# Altium schematic symbol library WRIS-RSKS.SchLib: 516 symbols (part 9 of 10)
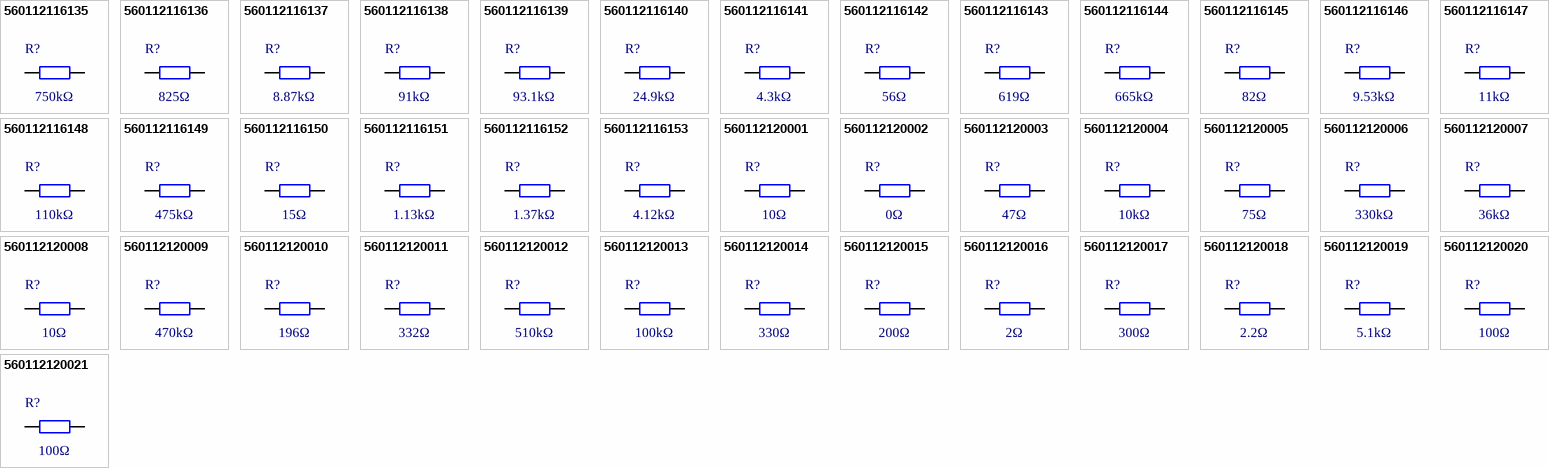
[diagram p20: symbols 560112116135 to 560112120021]

## 560112120016
designator R?, comment 2Ω
WRIS-RSKS Thick Film Resistor, size 0805, 2Ω, +/-5%, 250mW; Manufacturer Part Number: 560112120016; Manufacturer: Wurth Elektronik; Case/Size Code: 0805; Limiting Element Voltage: 150V; Temperature Coefficient of Resistance Min: -200ppm/°C; Temperature Coefficient of Resistance Max: 400ppm/°C; Category: Thick Film Resistors; Match Code: WRIS-RSKS; ComponentLink1Description: Website Link; ComponentLink1URL: https://www.we-online.com/redexpert/article/560112120016?ad; ComponentLink2Description: Datasheet Link; ComponentLink2URL: https://www.we-online.com/redexpert/spec/560112120016?ad; Mount: Surface Mount; Min Operating Temperature: -55°C; Max Operating Temperature: 155°C; Packaging: Tape and Reel; Length: 2mm; Width: 1.25mm; Height: 0.5mm; Rated Power: 250mW; Resistance: 2Ω; Resistance Tolerance: +/-5%
footprint WRIS-RSKS_0805_Reflow
footprint WRIS-RSKS_0805_Wave
pins: 1, 2

## 560112120017
designator R?, comment 300Ω
WRIS-RSKS Thick Film Resistor, size 0805, 300Ω, +/-1%, 250mW; Manufacturer Part Number: 560112120017; Manufacturer: Wurth Elektronik; Case/Size Code: 0805; Limiting Element Voltage: 150V; Temperature Coefficient of Resistance Min: -100ppm/°C; Temperature Coefficient of Resistance Max: 100ppm/°C; Category: Thick Film Resistors; Match Code: WRIS-RSKS; ComponentLink1Description: Website Link; ComponentLink1URL: https://www.we-online.com/redexpert/article/560112120017?ad; ComponentLink2Description: Datasheet Link; ComponentLink2URL: https://www.we-online.com/redexpert/spec/560112120017?ad; Mount: Surface Mount; Min Operating Temperature: -55°C; Max Operating Temperature: 155°C; Packaging: Tape and Reel; Length: 2mm; Width: 1.25mm; Height: 0.5mm; Rated Power: 250mW; Resistance: 300Ω; Resistance Tolerance: +/-1%
footprint WRIS-RSKS_0805_Reflow
footprint WRIS-RSKS_0805_Wave
pins: 1, 2

## 560112120018
designator R?, comment 2.2Ω
WRIS-RSKS Thick Film Resistor, size 0805, 2.2Ω, +/-1%, 250mW; Manufacturer Part Number: 560112120018; Manufacturer: Wurth Elektronik; Case/Size Code: 0805; Limiting Element Voltage: 150V; Temperature Coefficient of Resistance Min: -200ppm/°C; Temperature Coefficient of Resistance Max: 400ppm/°C; Category: Thick Film Resistors; Match Code: WRIS-RSKS; ComponentLink1Description: Website Link; ComponentLink1URL: https://www.we-online.com/redexpert/article/560112120018?ad; ComponentLink2Description: Datasheet Link; ComponentLink2URL: https://www.we-online.com/redexpert/spec/560112120018?ad; Mount: Surface Mount; Min Operating Temperature: -55°C; Max Operating Temperature: 155°C; Packaging: Tape and Reel; Length: 2mm; Width: 1.25mm; Height: 0.5mm; Rated Power: 250mW; Resistance: 2.2Ω; Resistance Tolerance: +/-1%
footprint WRIS-RSKS_0805_Reflow
footprint WRIS-RSKS_0805_Wave
pins: 1, 2

## 560112120019
designator R?, comment 5.1kΩ
WRIS-RSKS Thick Film Resistor, size 0805, 5.1kΩ, +/-5%, 250mW; Manufacturer Part Number: 560112120019; Manufacturer: Wurth Elektronik; Case/Size Code: 0805; Limiting Element Voltage: 150V; Temperature Coefficient of Resistance Min: -100ppm/°C; Temperature Coefficient of Resistance Max: 100ppm/°C; Category: Thick Film Resistors; Match Code: WRIS-RSKS; ComponentLink1Description: Website Link; ComponentLink1URL: https://www.we-online.com/redexpert/article/560112120019?ad; ComponentLink2Description: Datasheet Link; ComponentLink2URL: https://www.we-online.com/redexpert/spec/560112120019?ad; Mount: Surface Mount; Min Operating Temperature: -55°C; Max Operating Temperature: 155°C; Packaging: Tape and Reel; Length: 2mm; Width: 1.25mm; Height: 0.5mm; Rated Power: 250mW; Resistance: 5.1kΩ; Resistance Tolerance: +/-5%
footprint WRIS-RSKS_0805_Reflow
footprint WRIS-RSKS_0805_Wave
pins: 1, 2

## 560112120020
designator R?, comment 100Ω
WRIS-RSKS Thick Film Resistor, size 0805, 100Ω, +/-1%, 250mW; Manufacturer Part Number: 560112120020; Manufacturer: Wurth Elektronik; Case/Size Code: 0805; Limiting Element Voltage: 150V; Temperature Coefficient of Resistance Min: -100ppm/°C; Temperature Coefficient of Resistance Max: 100ppm/°C; Category: Thick Film Resistors; Match Code: WRIS-RSKS; ComponentLink1Description: Website Link; ComponentLink1URL: https://www.we-online.com/redexpert/article/560112120020?ad; ComponentLink2Description: Datasheet Link; ComponentLink2URL: https://www.we-online.com/redexpert/spec/560112120020?ad; Mount: Surface Mount; Min Operating Temperature: -55°C; Max Operating Temperature: 155°C; Packaging: Tape and Reel; Length: 2mm; Width: 1.25mm; Height: 0.5mm; Rated Power: 250mW; Resistance: 100Ω; Resistance Tolerance: +/-1%
footprint WRIS-RSKS_0805_Reflow
footprint WRIS-RSKS_0805_Wave
pins: 1, 2

## 560112120021
designator R?, comment 100Ω
WRIS-RSKS Thick Film Resistor, size 0805, 100Ω, +/-5%, 250mW; Manufacturer Part Number: 560112120021; Manufacturer: Wurth Elektronik; Case/Size Code: 0805; Limiting Element Voltage: 150V; Temperature Coefficient of Resistance Min: -100ppm/°C; Temperature Coefficient of Resistance Max: 100ppm/°C; Category: Thick Film Resistors; Match Code: WRIS-RSKS; ComponentLink1Description: Website Link; ComponentLink1URL: https://www.we-online.com/redexpert/article/560112120021?ad; ComponentLink2Description: Datasheet Link; ComponentLink2URL: https://www.we-online.com/redexpert/spec/560112120021?ad; Mount: Surface Mount; Min Operating Temperature: -55°C; Max Operating Temperature: 155°C; Packaging: Tape and Reel; Length: 2mm; Width: 1.25mm; Height: 0.5mm; Rated Power: 250mW; Resistance: 100Ω; Resistance Tolerance: +/-5%
footprint WRIS-RSKS_0805_Reflow
footprint WRIS-RSKS_0805_Wave
pins: 1, 2

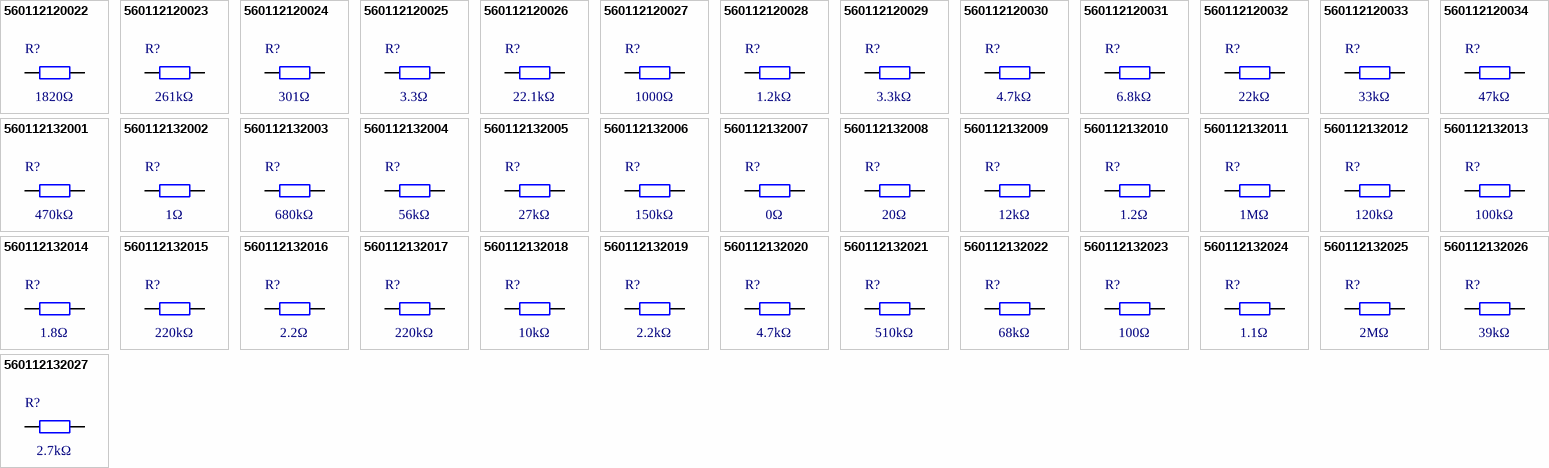
[diagram p11: symbols 560112120022 to 560112132027]

## 560112120022
designator R?, comment 1820Ω
WRIS-RSKS Thick Film Resistor, size 0805, 1820Ω, +/-1%, 250mW; Manufacturer Part Number: 560112120022; Manufacturer: Wurth Elektronik; Case/Size Code: 0805; Limiting Element Voltage: 150V; Temperature Coefficient of Resistance Min: -100ppm/°C; Temperature Coefficient of Resistance Max: 100ppm/°C; Category: Thick Film Resistors; Match Code: WRIS-RSKS; ComponentLink1Description: Website Link; ComponentLink1URL: https://www.we-online.com/redexpert/article/560112120022?ad; ComponentLink2Description: Datasheet Link; ComponentLink2URL: https://www.we-online.com/redexpert/spec/560112120022?ad; Mount: Surface Mount; Min Operating Temperature: -55°C; Max Operating Temperature: 155°C; Packaging: Tape and Reel; Length: 2mm; Width: 1.25mm; Height: 0.5mm; Rated Power: 250mW; Resistance: 1820Ω; Resistance Tolerance: +/-1%
footprint WRIS-RSKS_0805_Reflow
footprint WRIS-RSKS_0805_Wave
pins: 1, 2

## 560112120023
designator R?, comment 261kΩ
WRIS-RSKS Thick Film Resistor, size 0805, 261kΩ, +/-1%, 250mW; Manufacturer Part Number: 560112120023; Manufacturer: Wurth Elektronik; Case/Size Code: 0805; Limiting Element Voltage: 150V; Temperature Coefficient of Resistance Min: -100ppm/°C; Temperature Coefficient of Resistance Max: 100ppm/°C; Category: Thick Film Resistors; Match Code: WRIS-RSKS; ComponentLink1Description: Website Link; ComponentLink1URL: https://www.we-online.com/redexpert/article/560112120023?ad; ComponentLink2Description: Datasheet Link; ComponentLink2URL: https://www.we-online.com/redexpert/spec/560112120023?ad; Mount: Surface Mount; Min Operating Temperature: -55°C; Max Operating Temperature: 155°C; Packaging: Tape and Reel; Length: 2mm; Width: 1.25mm; Height: 0.5mm; Rated Power: 250mW; Resistance: 261kΩ; Resistance Tolerance: +/-1%
footprint WRIS-RSKS_0805_Reflow
footprint WRIS-RSKS_0805_Wave
pins: 1, 2

## 560112120024
designator R?, comment 301Ω
WRIS-RSKS Thick Film Resistor, size 0805, 301Ω, +/-1%, 250mW; Manufacturer Part Number: 560112120024; Manufacturer: Wurth Elektronik; Case/Size Code: 0805; Limiting Element Voltage: 150V; Temperature Coefficient of Resistance Min: -100ppm/°C; Temperature Coefficient of Resistance Max: 100ppm/°C; Category: Thick Film Resistors; Match Code: WRIS-RSKS; ComponentLink1Description: Website Link; ComponentLink1URL: https://www.we-online.com/redexpert/article/560112120024?ad; ComponentLink2Description: Datasheet Link; ComponentLink2URL: https://www.we-online.com/redexpert/spec/560112120024?ad; Mount: Surface Mount; Min Operating Temperature: -55°C; Max Operating Temperature: 155°C; Packaging: Tape and Reel; Length: 2mm; Width: 1.25mm; Height: 0.5mm; Rated Power: 250mW; Resistance: 301Ω; Resistance Tolerance: +/-1%
footprint WRIS-RSKS_0805_Reflow
footprint WRIS-RSKS_0805_Wave
pins: 1, 2

## 560112120025
designator R?, comment 3.3Ω
WRIS-RSKS Thick Film Resistor, size 0805, 3.3Ω, +/-5%, 250mW; Manufacturer Part Number: 560112120025; Manufacturer: Wurth Elektronik; Case/Size Code: 0805; Limiting Element Voltage: 150V; Temperature Coefficient of Resistance Min: -200ppm/°C; Temperature Coefficient of Resistance Max: 400ppm/°C; Category: Thick Film Resistors; Match Code: WRIS-RSKS; ComponentLink1Description: Website Link; ComponentLink1URL: https://www.we-online.com/redexpert/article/560112120025?ad; ComponentLink2Description: Datasheet Link; ComponentLink2URL: https://www.we-online.com/redexpert/spec/560112120025?ad; Mount: Surface Mount; Min Operating Temperature: -55°C; Max Operating Temperature: 155°C; Packaging: Tape and Reel; Length: 2mm; Width: 1.25mm; Height: 0.5mm; Rated Power: 250mW; Resistance: 3.3Ω; Resistance Tolerance: +/-5%
footprint WRIS-RSKS_0805_Reflow
footprint WRIS-RSKS_0805_Wave
pins: 1, 2

## 560112120026
designator R?, comment 22.1kΩ
WRIS-RSKS Thick Film Resistor, size 0805, 22.1kΩ, +/-1%, 250mW; Manufacturer Part Number: 560112120026; Manufacturer: Wurth Elektronik; Case/Size Code: 0805; Limiting Element Voltage: 150V; Temperature Coefficient of Resistance Min: -100ppm/°C; Temperature Coefficient of Resistance Max: 100ppm/°C; Category: Thick Film Resistors; Match Code: WRIS-RSKS; ComponentLink1Description: Website Link; ComponentLink1URL: https://www.we-online.com/redexpert/article/560112120026?ad; ComponentLink2Description: Datasheet Link; ComponentLink2URL: https://www.we-online.com/redexpert/spec/560112120026?ad; Mount: Surface Mount; Min Operating Temperature: -55°C; Max Operating Temperature: 155°C; Packaging: Tape and Reel; Length: 2mm; Width: 1.25mm; Height: 0.5mm; Rated Power: 250mW; Resistance: 22.1kΩ; Resistance Tolerance: +/-1%
footprint WRIS-RSKS_0805_Reflow
footprint WRIS-RSKS_0805_Wave
pins: 1, 2

## 560112120027
designator R?, comment 1000Ω
WRIS-RSKS Thick Film Resistor, size 0805, 1000Ω, +/-1%, 250mW; Manufacturer Part Number: 560112120027; Manufacturer: Wurth Elektronik; Case/Size Code: 0805; Limiting Element Voltage: 150V; Temperature Coefficient of Resistance Min: -100ppm/°C; Temperature Coefficient of Resistance Max: 100ppm/°C; Category: Thick Film Resistors; Match Code: WRIS-RSKS; ComponentLink1Description: Website Link; ComponentLink1URL: https://www.we-online.com/redexpert/article/560112120027?ad; ComponentLink2Description: Datasheet Link; ComponentLink2URL: https://www.we-online.com/redexpert/spec/560112120027?ad; Mount: Surface Mount; Min Operating Temperature: -55°C; Max Operating Temperature: 155°C; Packaging: Tape and Reel; Length: 2mm; Width: 1.25mm; Height: 0.5mm; Rated Power: 250mW; Resistance: 1000Ω; Resistance Tolerance: +/-1%
footprint WRIS-RSKS_0805_Reflow
footprint WRIS-RSKS_0805_Wave
pins: 1, 2

## 560112120028
designator R?, comment 1.2kΩ
WRIS-RSKS Thick Film Resistor, size 0805, 1.2kΩ, +/-1%, 250mW; Manufacturer Part Number: 560112120028; Manufacturer: Wurth Elektronik; Case/Size Code: 0805; Limiting Element Voltage: 150V; Temperature Coefficient of Resistance Min: -100ppm/°C; Temperature Coefficient of Resistance Max: 100ppm/°C; Category: Thick Film Resistors; Match Code: WRIS-RSKS; ComponentLink1Description: Website Link; ComponentLink1URL: https://www.we-online.com/redexpert/article/560112120028?ad; ComponentLink2Description: Datasheet Link; ComponentLink2URL: https://www.we-online.com/redexpert/spec/560112120028?ad; Mount: Surface Mount; Min Operating Temperature: -55°C; Max Operating Temperature: 155°C; Packaging: Tape and Reel; Length: 2mm; Width: 1.25mm; Height: 0.5mm; Rated Power: 250mW; Resistance: 1.2kΩ; Resistance Tolerance: +/-1%
footprint WRIS-RSKS_0805_Reflow
footprint WRIS-RSKS_0805_Wave
pins: 1, 2

## 560112120029
designator R?, comment 3.3kΩ
WRIS-RSKS Thick Film Resistor, size 0805, 3.3kΩ, +/-1%, 250mW; Manufacturer Part Number: 560112120029; Manufacturer: Wurth Elektronik; Case/Size Code: 0805; Limiting Element Voltage: 150V; Temperature Coefficient of Resistance Min: -100ppm/°C; Temperature Coefficient of Resistance Max: 100ppm/°C; Category: Thick Film Resistors; Match Code: WRIS-RSKS; ComponentLink1Description: Website Link; ComponentLink1URL: https://www.we-online.com/redexpert/article/560112120029?ad; ComponentLink2Description: Datasheet Link; ComponentLink2URL: https://www.we-online.com/redexpert/spec/560112120029?ad; Mount: Surface Mount; Min Operating Temperature: -55°C; Max Operating Temperature: 155°C; Packaging: Tape and Reel; Length: 2mm; Width: 1.25mm; Height: 0.5mm; Rated Power: 250mW; Resistance: 3.3kΩ; Resistance Tolerance: +/-1%
footprint WRIS-RSKS_0805_Reflow
footprint WRIS-RSKS_0805_Wave
pins: 1, 2

## 560112120030
designator R?, comment 4.7kΩ
WRIS-RSKS Thick Film Resistor, size 0805, 4.7kΩ, +/-1%, 250mW; Manufacturer Part Number: 560112120030; Manufacturer: Wurth Elektronik; Case/Size Code: 0805; Limiting Element Voltage: 150V; Temperature Coefficient of Resistance Min: -100ppm/°C; Temperature Coefficient of Resistance Max: 100ppm/°C; Category: Thick Film Resistors; Match Code: WRIS-RSKS; ComponentLink1Description: Website Link; ComponentLink1URL: https://www.we-online.com/redexpert/article/560112120030?ad; ComponentLink2Description: Datasheet Link; ComponentLink2URL: https://www.we-online.com/redexpert/spec/560112120030?ad; Mount: Surface Mount; Min Operating Temperature: -55°C; Max Operating Temperature: 155°C; Packaging: Tape and Reel; Length: 2mm; Width: 1.25mm; Height: 0.5mm; Rated Power: 250mW; Resistance: 4.7kΩ; Resistance Tolerance: +/-1%
footprint WRIS-RSKS_0805_Reflow
footprint WRIS-RSKS_0805_Wave
pins: 1, 2

## 560112120031
designator R?, comment 6.8kΩ
WRIS-RSKS Thick Film Resistor, size 0805, 6.8kΩ, +/-1%, 250mW; Manufacturer Part Number: 560112120031; Manufacturer: Wurth Elektronik; Case/Size Code: 0805; Limiting Element Voltage: 150V; Temperature Coefficient of Resistance Min: -100ppm/°C; Temperature Coefficient of Resistance Max: 100ppm/°C; Category: Thick Film Resistors; Match Code: WRIS-RSKS; ComponentLink1Description: Website Link; ComponentLink1URL: https://www.we-online.com/redexpert/article/560112120031?ad; ComponentLink2Description: Datasheet Link; ComponentLink2URL: https://www.we-online.com/redexpert/spec/560112120031?ad; Mount: Surface Mount; Min Operating Temperature: -55°C; Max Operating Temperature: 155°C; Packaging: Tape and Reel; Length: 2mm; Width: 1.25mm; Height: 0.5mm; Rated Power: 250mW; Resistance: 6.8kΩ; Resistance Tolerance: +/-1%
footprint WRIS-RSKS_0805_Reflow
footprint WRIS-RSKS_0805_Wave
pins: 1, 2

## 560112120032
designator R?, comment 22kΩ
WRIS-RSKS Thick Film Resistor, size 0805, 22kΩ, +/-1%, 250mW; Manufacturer Part Number: 560112120032; Manufacturer: Wurth Elektronik; Case/Size Code: 0805; Limiting Element Voltage: 150V; Temperature Coefficient of Resistance Min: -100ppm/°C; Temperature Coefficient of Resistance Max: 100ppm/°C; Category: Thick Film Resistors; Match Code: WRIS-RSKS; ComponentLink1Description: Website Link; ComponentLink1URL: https://www.we-online.com/redexpert/article/560112120032?ad; ComponentLink2Description: Datasheet Link; ComponentLink2URL: https://www.we-online.com/redexpert/spec/560112120032?ad; Mount: Surface Mount; Min Operating Temperature: -55°C; Max Operating Temperature: 155°C; Packaging: Tape and Reel; Length: 2mm; Width: 1.25mm; Height: 0.5mm; Rated Power: 250mW; Resistance: 22kΩ; Resistance Tolerance: +/-1%
footprint WRIS-RSKS_0805_Reflow
footprint WRIS-RSKS_0805_Wave
pins: 1, 2

## 560112120033
designator R?, comment 33kΩ
WRIS-RSKS Thick Film Resistor, size 0805, 33kΩ, +/-1%, 250mW; Manufacturer Part Number: 560112120033; Manufacturer: Wurth Elektronik; Case/Size Code: 0805; Limiting Element Voltage: 150V; Temperature Coefficient of Resistance Min: -100ppm/°C; Temperature Coefficient of Resistance Max: 100ppm/°C; Category: Thick Film Resistors; Match Code: WRIS-RSKS; ComponentLink1Description: Website Link; ComponentLink1URL: https://www.we-online.com/redexpert/article/560112120033?ad; ComponentLink2Description: Datasheet Link; ComponentLink2URL: https://www.we-online.com/redexpert/spec/560112120033?ad; Mount: Surface Mount; Min Operating Temperature: -55°C; Max Operating Temperature: 155°C; Packaging: Tape and Reel; Length: 2mm; Width: 1.25mm; Height: 0.5mm; Rated Power: 250mW; Resistance: 33kΩ; Resistance Tolerance: +/-1%
footprint WRIS-RSKS_0805_Reflow
footprint WRIS-RSKS_0805_Wave
pins: 1, 2

## 560112120034
designator R?, comment 47kΩ
WRIS-RSKS Thick Film Resistor, size 0805, 47kΩ, +/-1%, 250mW; Manufacturer Part Number: 560112120034; Manufacturer: Wurth Elektronik; Case/Size Code: 0805; Limiting Element Voltage: 150V; Temperature Coefficient of Resistance Min: -100ppm/°C; Temperature Coefficient of Resistance Max: 100ppm/°C; Category: Thick Film Resistors; Match Code: WRIS-RSKS; ComponentLink1Description: Website Link; ComponentLink1URL: https://www.we-online.com/redexpert/article/560112120034?ad; ComponentLink2Description: Datasheet Link; ComponentLink2URL: https://www.we-online.com/redexpert/spec/560112120034?ad; Mount: Surface Mount; Min Operating Temperature: -55°C; Max Operating Temperature: 155°C; Packaging: Tape and Reel; Length: 2mm; Width: 1.25mm; Height: 0.5mm; Rated Power: 250mW; Resistance: 47kΩ; Resistance Tolerance: +/-1%
footprint WRIS-RSKS_0805_Reflow
footprint WRIS-RSKS_0805_Wave
pins: 1, 2

## 560112132001
designator R?, comment 470kΩ
WRIS-RSKS Thick Film Resistor, size 1206, 470kΩ, +/-1%, 250mW; Manufacturer Part Number: 560112132001; Manufacturer: Wurth Elektronik; Case/Size Code: 1206; Limiting Element Voltage: 200V; Temperature Coefficient of Resistance Min: -100ppm/°C; Temperature Coefficient of Resistance Max: 100ppm/°C; Category: Thick Film Resistors; Match Code: WRIS-RSKS; ComponentLink1Description: Website Link; ComponentLink1URL: https://www.we-online.com/redexpert/article/560112132001?ad; ComponentLink2Description: Datasheet Link; ComponentLink2URL: https://www.we-online.com/redexpert/spec/560112132001?ad; Mount: Surface Mount; Min Operating Temperature: -55°C; Max Operating Temperature: 155°C; Packaging: Tape and Reel; Length: 3.1mm; Width: 1.6mm; Height: 0.6mm; Rated Power: 250mW; Resistance: 470kΩ; Resistance Tolerance: +/-1%
footprint WRIS-RSKS_1206_Reflow
footprint WRIS-RSKS_1206_Wave
pins: 1, 2

## 560112132002
designator R?, comment 1Ω
WRIS-RSKS Thick Film Resistor, size 1206, 1Ω, +/-1%, 250mW; Manufacturer Part Number: 560112132002; Manufacturer: Wurth Elektronik; Case/Size Code: 1206; Limiting Element Voltage: 200V; Temperature Coefficient of Resistance Min: -200ppm/°C; Temperature Coefficient of Resistance Max: 400ppm/°C; Category: Thick Film Resistors; Match Code: WRIS-RSKS; ComponentLink1Description: Website Link; ComponentLink1URL: https://www.we-online.com/redexpert/article/560112132002?ad; ComponentLink2Description: Datasheet Link; ComponentLink2URL: https://www.we-online.com/redexpert/spec/560112132002?ad; Mount: Surface Mount; Min Operating Temperature: -55°C; Max Operating Temperature: 155°C; Packaging: Tape and Reel; Length: 3.1mm; Width: 1.6mm; Height: 0.6mm; Rated Power: 250mW; Resistance: 1Ω; Resistance Tolerance: +/-1%
footprint WRIS-RSKS_1206_Reflow
footprint WRIS-RSKS_1206_Wave
pins: 1, 2

## 560112132003
designator R?, comment 680kΩ
WRIS-RSKS Thick Film Resistor, size 1206, 680kΩ, +/-1%, 250mW; Manufacturer Part Number: 560112132003; Manufacturer: Wurth Elektronik; Case/Size Code: 1206; Limiting Element Voltage: 200V; Temperature Coefficient of Resistance Min: -100ppm/°C; Temperature Coefficient of Resistance Max: 100ppm/°C; Category: Thick Film Resistors; Match Code: WRIS-RSKS; ComponentLink1Description: Website Link; ComponentLink1URL: https://www.we-online.com/redexpert/article/560112132003?ad; ComponentLink2Description: Datasheet Link; ComponentLink2URL: https://www.we-online.com/redexpert/spec/560112132003?ad; Mount: Surface Mount; Min Operating Temperature: -55°C; Max Operating Temperature: 155°C; Packaging: Tape and Reel; Length: 3.1mm; Width: 1.6mm; Height: 0.6mm; Rated Power: 250mW; Resistance: 680kΩ; Resistance Tolerance: +/-1%
footprint WRIS-RSKS_1206_Reflow
footprint WRIS-RSKS_1206_Wave
pins: 1, 2

## 560112132004
designator R?, comment 56kΩ
WRIS-RSKS Thick Film Resistor, size 1206, 56kΩ, +/-1%, 250mW; Manufacturer Part Number: 560112132004; Manufacturer: Wurth Elektronik; Case/Size Code: 1206; Limiting Element Voltage: 200V; Temperature Coefficient of Resistance Min: -100ppm/°C; Temperature Coefficient of Resistance Max: 100ppm/°C; Category: Thick Film Resistors; Match Code: WRIS-RSKS; ComponentLink1Description: Website Link; ComponentLink1URL: https://www.we-online.com/redexpert/article/560112132004?ad; ComponentLink2Description: Datasheet Link; ComponentLink2URL: https://www.we-online.com/redexpert/spec/560112132004?ad; Mount: Surface Mount; Min Operating Temperature: -55°C; Max Operating Temperature: 155°C; Packaging: Tape and Reel; Length: 3.1mm; Width: 1.6mm; Height: 0.6mm; Rated Power: 250mW; Resistance: 56kΩ; Resistance Tolerance: +/-1%
footprint WRIS-RSKS_1206_Reflow
footprint WRIS-RSKS_1206_Wave
pins: 1, 2

## 560112132005
designator R?, comment 27kΩ
WRIS-RSKS Thick Film Resistor, size 1206, 27kΩ, +/-1%, 250mW; Manufacturer Part Number: 560112132005; Manufacturer: Wurth Elektronik; Case/Size Code: 1206; Limiting Element Voltage: 200V; Temperature Coefficient of Resistance Min: -100ppm/°C; Temperature Coefficient of Resistance Max: 100ppm/°C; Category: Thick Film Resistors; Match Code: WRIS-RSKS; ComponentLink1Description: Website Link; ComponentLink1URL: https://www.we-online.com/redexpert/article/560112132005?ad; ComponentLink2Description: Datasheet Link; ComponentLink2URL: https://www.we-online.com/redexpert/spec/560112132005?ad; Mount: Surface Mount; Min Operating Temperature: -55°C; Max Operating Temperature: 155°C; Packaging: Tape and Reel; Length: 3.1mm; Width: 1.6mm; Height: 0.6mm; Rated Power: 250mW; Resistance: 27kΩ; Resistance Tolerance: +/-1%
footprint WRIS-RSKS_1206_Reflow
footprint WRIS-RSKS_1206_Wave
pins: 1, 2

## 560112132006
designator R?, comment 150kΩ
WRIS-RSKS Thick Film Resistor, size 1206, 150kΩ, +/-1%, 250mW; Manufacturer Part Number: 560112132006; Manufacturer: Wurth Elektronik; Case/Size Code: 1206; Limiting Element Voltage: 200V; Temperature Coefficient of Resistance Min: -100ppm/°C; Temperature Coefficient of Resistance Max: 100ppm/°C; Category: Thick Film Resistors; Match Code: WRIS-RSKS; ComponentLink1Description: Website Link; ComponentLink1URL: https://www.we-online.com/redexpert/article/560112132006?ad; ComponentLink2Description: Datasheet Link; ComponentLink2URL: https://www.we-online.com/redexpert/spec/560112132006?ad; Mount: Surface Mount; Min Operating Temperature: -55°C; Max Operating Temperature: 155°C; Packaging: Tape and Reel; Length: 3.1mm; Width: 1.6mm; Height: 0.6mm; Rated Power: 250mW; Resistance: 150kΩ; Resistance Tolerance: +/-1%
footprint WRIS-RSKS_1206_Reflow
footprint WRIS-RSKS_1206_Wave
pins: 1, 2

## 560112132007
designator R?, comment 0Ω
WRIS-RSKS Thick Film Resistor, size 1206, 0Ω, +0.05Ω/-0Ω, 250mW; Manufacturer Part Number: 560112132007; Manufacturer: Wurth Elektronik; Case/Size Code: 1206; Limiting Element Voltage: 0V; Temperature Coefficient of Resistance Min: 0ppm/°C; Category: Thick Film Resistors; Match Code: WRIS-RSKS; ComponentLink1Description: Website Link; ComponentLink1URL: https://www.we-online.com/redexpert/article/560112132007?ad; ComponentLink2Description: Datasheet Link; ComponentLink2URL: https://www.we-online.com/redexpert/spec/560112132007?ad; Mount: Surface Mount; Min Operating Temperature: -55°C; Max Operating Temperature: 155°C; Packaging: Tape and Reel; Length: 3.1mm; Width: 1.6mm; Height: 0.6mm; Rated Power: 250mW; Resistance: 0Ω; Resistance Tolerance: +0.05Ω/-0Ω; Temperature Coefficient of Resistance Max: 0ppm/°C
footprint WRIS-RSKS_1206_Reflow
footprint WRIS-RSKS_1206_Wave
pins: 1, 2

## 560112132008
designator R?, comment 20Ω
WRIS-RSKS Thick Film Resistor, size 1206, 20Ω, +/-1%, 250mW; Manufacturer Part Number: 560112132008; Manufacturer: Wurth Elektronik; Case/Size Code: 1206; Limiting Element Voltage: 200V; Temperature Coefficient of Resistance Min: -100ppm/°C; Temperature Coefficient of Resistance Max: 100ppm/°C; Category: Thick Film Resistors; Match Code: WRIS-RSKS; ComponentLink1Description: Website Link; ComponentLink1URL: https://www.we-online.com/redexpert/article/560112132008?ad; ComponentLink2Description: Datasheet Link; ComponentLink2URL: https://www.we-online.com/redexpert/spec/560112132008?ad; Mount: Surface Mount; Min Operating Temperature: -55°C; Max Operating Temperature: 155°C; Packaging: Tape and Reel; Length: 3.1mm; Width: 1.6mm; Height: 0.6mm; Rated Power: 250mW; Resistance: 20Ω; Resistance Tolerance: +/-1%
footprint WRIS-RSKS_1206_Reflow
footprint WRIS-RSKS_1206_Wave
pins: 1, 2

## 560112132009
designator R?, comment 12kΩ
WRIS-RSKS Thick Film Resistor, size 1206, 12kΩ, +/-1%, 250mW; Manufacturer Part Number: 560112132009; Manufacturer: Wurth Elektronik; Case/Size Code: 1206; Limiting Element Voltage: 200V; Temperature Coefficient of Resistance Min: -100ppm/°C; Temperature Coefficient of Resistance Max: 100ppm/°C; Category: Thick Film Resistors; Match Code: WRIS-RSKS; ComponentLink1Description: Website Link; ComponentLink1URL: https://www.we-online.com/redexpert/article/560112132009?ad; ComponentLink2Description: Datasheet Link; ComponentLink2URL: https://www.we-online.com/redexpert/spec/560112132009?ad; Mount: Surface Mount; Min Operating Temperature: -55°C; Max Operating Temperature: 155°C; Packaging: Tape and Reel; Length: 3.1mm; Width: 1.6mm; Height: 0.6mm; Rated Power: 250mW; Resistance: 12kΩ; Resistance Tolerance: +/-1%
footprint WRIS-RSKS_1206_Reflow
footprint WRIS-RSKS_1206_Wave
pins: 1, 2

## 560112132010
designator R?, comment 1.2Ω
WRIS-RSKS Thick Film Resistor, size 1206, 1.2Ω, +/-1%, 250mW; Manufacturer Part Number: 560112132010; Manufacturer: Wurth Elektronik; Case/Size Code: 1206; Limiting Element Voltage: 200V; Temperature Coefficient of Resistance Min: -200ppm/°C; Temperature Coefficient of Resistance Max: 400ppm/°C; Category: Thick Film Resistors; Match Code: WRIS-RSKS; ComponentLink1Description: Website Link; ComponentLink1URL: https://www.we-online.com/redexpert/article/560112132010?ad; ComponentLink2Description: Datasheet Link; ComponentLink2URL: https://www.we-online.com/redexpert/spec/560112132010?ad; Mount: Surface Mount; Min Operating Temperature: -55°C; Max Operating Temperature: 155°C; Packaging: Tape and Reel; Length: 3.1mm; Width: 1.6mm; Height: 0.6mm; Rated Power: 250mW; Resistance: 1.2Ω; Resistance Tolerance: +/-1%
footprint WRIS-RSKS_1206_Reflow
footprint WRIS-RSKS_1206_Wave
pins: 1, 2

## 560112132011
designator R?, comment 1MΩ
WRIS-RSKS Thick Film Resistor, size 1206, 1MΩ, +/-1%, 250mW; Manufacturer Part Number: 560112132011; Manufacturer: Wurth Elektronik; Case/Size Code: 1206; Limiting Element Voltage: 200V; Temperature Coefficient of Resistance Min: -100ppm/°C; Temperature Coefficient of Resistance Max: 100ppm/°C; Category: Thick Film Resistors; Match Code: WRIS-RSKS; ComponentLink1Description: Website Link; ComponentLink1URL: https://www.we-online.com/redexpert/article/560112132011?ad; ComponentLink2Description: Datasheet Link; ComponentLink2URL: https://www.we-online.com/redexpert/spec/560112132011?ad; Mount: Surface Mount; Min Operating Temperature: -55°C; Max Operating Temperature: 155°C; Packaging: Tape and Reel; Length: 3.1mm; Width: 1.6mm; Height: 0.6mm; Rated Power: 250mW; Resistance: 1MΩ; Resistance Tolerance: +/-1%
footprint WRIS-RSKS_1206_Reflow
footprint WRIS-RSKS_1206_Wave
pins: 1, 2

## 560112132012
designator R?, comment 120kΩ
WRIS-RSKS Thick Film Resistor, size 1206, 120kΩ, +/-1%, 250mW; Manufacturer Part Number: 560112132012; Manufacturer: Wurth Elektronik; Case/Size Code: 1206; Limiting Element Voltage: 200V; Temperature Coefficient of Resistance Min: -100ppm/°C; Temperature Coefficient of Resistance Max: 100ppm/°C; Category: Thick Film Resistors; Match Code: WRIS-RSKS; ComponentLink1Description: Website Link; ComponentLink1URL: https://www.we-online.com/redexpert/article/560112132012?ad; ComponentLink2Description: Datasheet Link; ComponentLink2URL: https://www.we-online.com/redexpert/spec/560112132012?ad; Mount: Surface Mount; Min Operating Temperature: -55°C; Max Operating Temperature: 155°C; Packaging: Tape and Reel; Length: 3.1mm; Width: 1.6mm; Height: 0.6mm; Rated Power: 250mW; Resistance: 120kΩ; Resistance Tolerance: +/-1%
footprint WRIS-RSKS_1206_Reflow
footprint WRIS-RSKS_1206_Wave
pins: 1, 2

## 560112132013
designator R?, comment 100kΩ
WRIS-RSKS Thick Film Resistor, size 1206, 100kΩ, +/-5%, 250mW; Manufacturer Part Number: 560112132013; Manufacturer: Wurth Elektronik; Case/Size Code: 1206; Limiting Element Voltage: 200V; Temperature Coefficient of Resistance Min: -100ppm/°C; Temperature Coefficient of Resistance Max: 100ppm/°C; Category: Thick Film Resistors; Match Code: WRIS-RSKS; ComponentLink1Description: Website Link; ComponentLink1URL: https://www.we-online.com/redexpert/article/560112132013?ad; ComponentLink2Description: Datasheet Link; ComponentLink2URL: https://www.we-online.com/redexpert/spec/560112132013?ad; Mount: Surface Mount; Min Operating Temperature: -55°C; Max Operating Temperature: 155°C; Packaging: Tape and Reel; Length: 3.1mm; Width: 1.6mm; Height: 0.6mm; Rated Power: 250mW; Resistance: 100kΩ; Resistance Tolerance: +/-5%
footprint WRIS-RSKS_1206_Reflow
footprint WRIS-RSKS_1206_Wave
pins: 1, 2

## 560112132014
designator R?, comment 1.8Ω
WRIS-RSKS Thick Film Resistor, size 1206, 1.8Ω, +/-1%, 250mW; Manufacturer Part Number: 560112132014; Manufacturer: Wurth Elektronik; Case/Size Code: 1206; Limiting Element Voltage: 200V; Temperature Coefficient of Resistance Min: -200ppm/°C; Temperature Coefficient of Resistance Max: 400ppm/°C; Category: Thick Film Resistors; Match Code: WRIS-RSKS; ComponentLink1Description: Website Link; ComponentLink1URL: https://www.we-online.com/redexpert/article/560112132014?ad; ComponentLink2Description: Datasheet Link; ComponentLink2URL: https://www.we-online.com/redexpert/spec/560112132014?ad; Mount: Surface Mount; Min Operating Temperature: -55°C; Max Operating Temperature: 155°C; Packaging: Tape and Reel; Length: 3.1mm; Width: 1.6mm; Height: 0.6mm; Rated Power: 250mW; Resistance: 1.8Ω; Resistance Tolerance: +/-1%
footprint WRIS-RSKS_1206_Reflow
footprint WRIS-RSKS_1206_Wave
pins: 1, 2

## 560112132015
designator R?, comment 220kΩ
WRIS-RSKS Thick Film Resistor, size 1206, 220kΩ, +/-5%, 250mW; Manufacturer Part Number: 560112132015; Manufacturer: Wurth Elektronik; Case/Size Code: 1206; Limiting Element Voltage: 200V; Temperature Coefficient of Resistance Min: -100ppm/°C; Temperature Coefficient of Resistance Max: 100ppm/°C; Category: Thick Film Resistors; Match Code: WRIS-RSKS; ComponentLink1Description: Website Link; ComponentLink1URL: https://www.we-online.com/redexpert/article/560112132015?ad; ComponentLink2Description: Datasheet Link; ComponentLink2URL: https://www.we-online.com/redexpert/spec/560112132015?ad; Mount: Surface Mount; Min Operating Temperature: -55°C; Max Operating Temperature: 155°C; Packaging: Tape and Reel; Length: 3.1mm; Width: 1.6mm; Height: 0.6mm; Rated Power: 250mW; Resistance: 220kΩ; Resistance Tolerance: +/-5%
footprint WRIS-RSKS_1206_Reflow
footprint WRIS-RSKS_1206_Wave
pins: 1, 2

## 560112132016
designator R?, comment 2.2Ω
WRIS-RSKS Thick Film Resistor, size 1206, 2.2Ω, +/-1%, 250mW; Manufacturer Part Number: 560112132016; Manufacturer: Wurth Elektronik; Case/Size Code: 1206; Limiting Element Voltage: 200V; Temperature Coefficient of Resistance Min: -200ppm/°C; Temperature Coefficient of Resistance Max: 400ppm/°C; Category: Thick Film Resistors; Match Code: WRIS-RSKS; ComponentLink1Description: Website Link; ComponentLink1URL: https://www.we-online.com/redexpert/article/560112132016?ad; ComponentLink2Description: Datasheet Link; ComponentLink2URL: https://www.we-online.com/redexpert/spec/560112132016?ad; Mount: Surface Mount; Min Operating Temperature: -55°C; Max Operating Temperature: 155°C; Packaging: Tape and Reel; Length: 3.1mm; Width: 1.6mm; Height: 0.6mm; Rated Power: 250mW; Resistance: 2.2Ω; Resistance Tolerance: +/-1%
footprint WRIS-RSKS_1206_Reflow
footprint WRIS-RSKS_1206_Wave
pins: 1, 2

## 560112132017
designator R?, comment 220kΩ
WRIS-RSKS Thick Film Resistor, size 1206, 220kΩ, +/-1%, 250mW; Manufacturer Part Number: 560112132017; Manufacturer: Wurth Elektronik; Case/Size Code: 1206; Limiting Element Voltage: 200V; Temperature Coefficient of Resistance Min: -100ppm/°C; Temperature Coefficient of Resistance Max: 100ppm/°C; Category: Thick Film Resistors; Match Code: WRIS-RSKS; ComponentLink1Description: Website Link; ComponentLink1URL: https://www.we-online.com/redexpert/article/560112132017?ad; ComponentLink2Description: Datasheet Link; ComponentLink2URL: https://www.we-online.com/redexpert/spec/560112132017?ad; Mount: Surface Mount; Min Operating Temperature: -55°C; Max Operating Temperature: 155°C; Packaging: Tape and Reel; Length: 3.1mm; Width: 1.6mm; Height: 0.6mm; Rated Power: 250mW; Resistance: 220kΩ; Resistance Tolerance: +/-1%
footprint WRIS-RSKS_1206_Reflow
footprint WRIS-RSKS_1206_Wave
pins: 1, 2

## 560112132018
designator R?, comment 10kΩ
WRIS-RSKS Thick Film Resistor, size 1206, 10kΩ, +/-1%, 250mW; Manufacturer Part Number: 560112132018; Manufacturer: Wurth Elektronik; Case/Size Code: 1206; Limiting Element Voltage: 200V; Temperature Coefficient of Resistance Min: -100ppm/°C; Temperature Coefficient of Resistance Max: 100ppm/°C; Category: Thick Film Resistors; Match Code: WRIS-RSKS; ComponentLink1Description: Website Link; ComponentLink1URL: https://www.we-online.com/redexpert/article/560112132018?ad; ComponentLink2Description: Datasheet Link; ComponentLink2URL: https://www.we-online.com/redexpert/spec/560112132018?ad; Mount: Surface Mount; Min Operating Temperature: -55°C; Max Operating Temperature: 155°C; Packaging: Tape and Reel; Length: 3.1mm; Width: 1.6mm; Height: 0.6mm; Rated Power: 250mW; Resistance: 10kΩ; Resistance Tolerance: +/-1%
footprint WRIS-RSKS_1206_Reflow
footprint WRIS-RSKS_1206_Wave
pins: 1, 2

## 560112132019
designator R?, comment 2.2kΩ
WRIS-RSKS Thick Film Resistor, size 1206, 2.2kΩ, +/-1%, 250mW; Manufacturer Part Number: 560112132019; Manufacturer: Wurth Elektronik; Case/Size Code: 1206; Limiting Element Voltage: 200V; Temperature Coefficient of Resistance Min: -100ppm/°C; Temperature Coefficient of Resistance Max: 100ppm/°C; Category: Thick Film Resistors; Match Code: WRIS-RSKS; ComponentLink1Description: Website Link; ComponentLink1URL: https://www.we-online.com/redexpert/article/560112132019?ad; ComponentLink2Description: Datasheet Link; ComponentLink2URL: https://www.we-online.com/redexpert/spec/560112132019?ad; Mount: Surface Mount; Min Operating Temperature: -55°C; Max Operating Temperature: 155°C; Packaging: Tape and Reel; Length: 3.1mm; Width: 1.6mm; Height: 0.6mm; Rated Power: 250mW; Resistance: 2.2kΩ; Resistance Tolerance: +/-1%
footprint WRIS-RSKS_1206_Reflow
footprint WRIS-RSKS_1206_Wave
pins: 1, 2

## 560112132020
designator R?, comment 4.7kΩ
WRIS-RSKS Thick Film Resistor, size 1206, 4.7kΩ, +/-1%, 250mW; Manufacturer Part Number: 560112132020; Manufacturer: Wurth Elektronik; Case/Size Code: 1206; Limiting Element Voltage: 200V; Temperature Coefficient of Resistance Min: -100ppm/°C; Temperature Coefficient of Resistance Max: 100ppm/°C; Category: Thick Film Resistors; Match Code: WRIS-RSKS; ComponentLink1Description: Website Link; ComponentLink1URL: https://www.we-online.com/redexpert/article/560112132020?ad; ComponentLink2Description: Datasheet Link; ComponentLink2URL: https://www.we-online.com/redexpert/spec/560112132020?ad; Mount: Surface Mount; Min Operating Temperature: -55°C; Max Operating Temperature: 155°C; Packaging: Tape and Reel; Length: 3.1mm; Width: 1.6mm; Height: 0.6mm; Rated Power: 250mW; Resistance: 4.7kΩ; Resistance Tolerance: +/-1%
footprint WRIS-RSKS_1206_Reflow
footprint WRIS-RSKS_1206_Wave
pins: 1, 2

## 560112132021
designator R?, comment 510kΩ
WRIS-RSKS Thick Film Resistor, size 1206, 510kΩ, +/-1%, 250mW; Manufacturer Part Number: 560112132021; Manufacturer: Wurth Elektronik; Case/Size Code: 1206; Limiting Element Voltage: 200V; Temperature Coefficient of Resistance Min: -100ppm/°C; Temperature Coefficient of Resistance Max: 100ppm/°C; Category: Thick Film Resistors; Match Code: WRIS-RSKS; ComponentLink1Description: Website Link; ComponentLink1URL: https://www.we-online.com/redexpert/article/560112132021?ad; ComponentLink2Description: Datasheet Link; ComponentLink2URL: https://www.we-online.com/redexpert/spec/560112132021?ad; Mount: Surface Mount; Min Operating Temperature: -55°C; Max Operating Temperature: 155°C; Packaging: Tape and Reel; Length: 3.1mm; Width: 1.6mm; Height: 0.6mm; Rated Power: 250mW; Resistance: 510kΩ; Resistance Tolerance: +/-1%
footprint WRIS-RSKS_1206_Reflow
footprint WRIS-RSKS_1206_Wave
pins: 1, 2

## 560112132022
designator R?, comment 68kΩ
WRIS-RSKS Thick Film Resistor, size 1206, 68kΩ, +/-1%, 250mW; Manufacturer Part Number: 560112132022; Manufacturer: Wurth Elektronik; Case/Size Code: 1206; Limiting Element Voltage: 200V; Temperature Coefficient of Resistance Min: -100ppm/°C; Temperature Coefficient of Resistance Max: 100ppm/°C; Category: Thick Film Resistors; Match Code: WRIS-RSKS; ComponentLink1Description: Website Link; ComponentLink1URL: https://www.we-online.com/redexpert/article/560112132022?ad; ComponentLink2Description: Datasheet Link; ComponentLink2URL: https://www.we-online.com/redexpert/spec/560112132022?ad; Mount: Surface Mount; Min Operating Temperature: -55°C; Max Operating Temperature: 155°C; Packaging: Tape and Reel; Length: 3.1mm; Width: 1.6mm; Height: 0.6mm; Rated Power: 250mW; Resistance: 68kΩ; Resistance Tolerance: +/-1%
footprint WRIS-RSKS_1206_Reflow
footprint WRIS-RSKS_1206_Wave
pins: 1, 2

## 560112132023
designator R?, comment 100Ω
WRIS-RSKS Thick Film Resistor, size 1206, 100Ω, +/-1%, 250mW; Manufacturer Part Number: 560112132023; Manufacturer: Wurth Elektronik; Case/Size Code: 1206; Limiting Element Voltage: 200V; Temperature Coefficient of Resistance Min: -100ppm/°C; Temperature Coefficient of Resistance Max: 100ppm/°C; Category: Thick Film Resistors; Match Code: WRIS-RSKS; ComponentLink1Description: Website Link; ComponentLink1URL: https://www.we-online.com/redexpert/article/560112132023?ad; ComponentLink2Description: Datasheet Link; ComponentLink2URL: https://www.we-online.com/redexpert/spec/560112132023?ad; Mount: Surface Mount; Min Operating Temperature: -55°C; Max Operating Temperature: 155°C; Packaging: Tape and Reel; Length: 3.1mm; Width: 1.6mm; Height: 0.6mm; Rated Power: 250mW; Resistance: 100Ω; Resistance Tolerance: +/-1%
footprint WRIS-RSKS_1206_Reflow
footprint WRIS-RSKS_1206_Wave
pins: 1, 2

## 560112132024
designator R?, comment 1.1Ω
WRIS-RSKS Thick Film Resistor, size 1206, 1.1Ω, +/-1%, 250mW; Manufacturer Part Number: 560112132024; Manufacturer: Wurth Elektronik; Case/Size Code: 1206; Limiting Element Voltage: 200V; Temperature Coefficient of Resistance Min: -200ppm/°C; Temperature Coefficient of Resistance Max: 400ppm/°C; Category: Thick Film Resistors; Match Code: WRIS-RSKS; ComponentLink1Description: Website Link; ComponentLink1URL: https://www.we-online.com/redexpert/article/560112132024?ad; ComponentLink2Description: Datasheet Link; ComponentLink2URL: https://www.we-online.com/redexpert/spec/560112132024?ad; Mount: Surface Mount; Min Operating Temperature: -55°C; Max Operating Temperature: 155°C; Packaging: Tape and Reel; Length: 3.1mm; Width: 1.6mm; Height: 0.6mm; Rated Power: 250mW; Resistance: 1.1Ω; Resistance Tolerance: +/-1%
footprint WRIS-RSKS_1206_Reflow
footprint WRIS-RSKS_1206_Wave
pins: 1, 2

## 560112132025
designator R?, comment 2MΩ
WRIS-RSKS Thick Film Resistor, size 1206, 2MΩ, +/-1%, 250mW; Manufacturer Part Number: 560112132025; Manufacturer: Wurth Elektronik; Case/Size Code: 1206; Limiting Element Voltage: 200V; Temperature Coefficient of Resistance Min: -200ppm/°C; Temperature Coefficient of Resistance Max: 200ppm/°C; Category: Thick Film Resistors; Match Code: WRIS-RSKS; ComponentLink1Description: Website Link; ComponentLink1URL: https://www.we-online.com/redexpert/article/560112132025?ad; ComponentLink2Description: Datasheet Link; ComponentLink2URL: https://www.we-online.com/redexpert/spec/560112132025?ad; Mount: Surface Mount; Min Operating Temperature: -55°C; Max Operating Temperature: 155°C; Packaging: Tape and Reel; Length: 3.1mm; Width: 1.6mm; Height: 0.6mm; Rated Power: 250mW; Resistance: 2MΩ; Resistance Tolerance: +/-1%
footprint WRIS-RSKS_1206_Reflow
footprint WRIS-RSKS_1206_Wave
pins: 1, 2

## 560112132026
designator R?, comment 39kΩ
WRIS-RSKS Thick Film Resistor, size 1206, 39kΩ, +/-1%, 250mW; Manufacturer Part Number: 560112132026; Manufacturer: Wurth Elektronik; Case/Size Code: 1206; Limiting Element Voltage: 200V; Temperature Coefficient of Resistance Min: -100ppm/°C; Temperature Coefficient of Resistance Max: 100ppm/°C; Category: Thick Film Resistors; Match Code: WRIS-RSKS; ComponentLink1Description: Website Link; ComponentLink1URL: https://www.we-online.com/redexpert/article/560112132026?ad; ComponentLink2Description: Datasheet Link; ComponentLink2URL: https://www.we-online.com/redexpert/spec/560112132026?ad; Mount: Surface Mount; Min Operating Temperature: -55°C; Max Operating Temperature: 155°C; Packaging: Tape and Reel; Length: 3.1mm; Width: 1.6mm; Height: 0.6mm; Rated Power: 250mW; Resistance: 39kΩ; Resistance Tolerance: +/-1%
footprint WRIS-RSKS_1206_Reflow
footprint WRIS-RSKS_1206_Wave
pins: 1, 2

## 560112132027
designator R?, comment 2.7kΩ
WRIS-RSKS Thick Film Resistor, size 1206, 2.7kΩ, +/-1%, 250mW; Manufacturer Part Number: 560112132027; Manufacturer: Wurth Elektronik; Case/Size Code: 1206; Limiting Element Voltage: 200V; Temperature Coefficient of Resistance Min: -100ppm/°C; Temperature Coefficient of Resistance Max: 100ppm/°C; Category: Thick Film Resistors; Match Code: WRIS-RSKS; ComponentLink1Description: Website Link; ComponentLink1URL: https://www.we-online.com/redexpert/article/560112132027?ad; ComponentLink2Description: Datasheet Link; ComponentLink2URL: https://www.we-online.com/redexpert/spec/560112132027?ad; Mount: Surface Mount; Min Operating Temperature: -55°C; Max Operating Temperature: 155°C; Packaging: Tape and Reel; Length: 3.1mm; Width: 1.6mm; Height: 0.6mm; Rated Power: 250mW; Resistance: 2.7kΩ; Resistance Tolerance: +/-1%
footprint WRIS-RSKS_1206_Reflow
footprint WRIS-RSKS_1206_Wave
pins: 1, 2

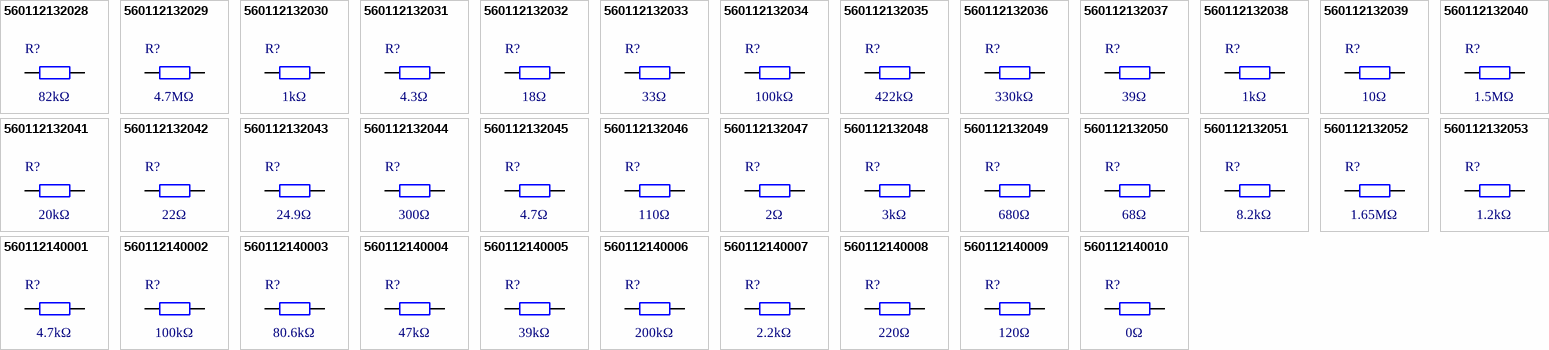
[diagram p12: symbols 560112132028 to 560112140010]

## 560112132028
designator R?, comment 82kΩ
WRIS-RSKS Thick Film Resistor, size 1206, 82kΩ, +/-1%, 250mW; Manufacturer Part Number: 560112132028; Manufacturer: Wurth Elektronik; Case/Size Code: 1206; Limiting Element Voltage: 200V; Temperature Coefficient of Resistance Min: -100ppm/°C; Temperature Coefficient of Resistance Max: 100ppm/°C; Category: Thick Film Resistors; Match Code: WRIS-RSKS; ComponentLink1Description: Website Link; ComponentLink1URL: https://www.we-online.com/redexpert/article/560112132028?ad; ComponentLink2Description: Datasheet Link; ComponentLink2URL: https://www.we-online.com/redexpert/spec/560112132028?ad; Mount: Surface Mount; Min Operating Temperature: -55°C; Max Operating Temperature: 155°C; Packaging: Tape and Reel; Length: 3.1mm; Width: 1.6mm; Height: 0.6mm; Rated Power: 250mW; Resistance: 82kΩ; Resistance Tolerance: +/-1%
footprint WRIS-RSKS_1206_Reflow
footprint WRIS-RSKS_1206_Wave
pins: 1, 2

## 560112132029
designator R?, comment 4.7MΩ
WRIS-RSKS Thick Film Resistor, size 1206, 4.7MΩ, +/-1%, 250mW; Manufacturer Part Number: 560112132029; Manufacturer: Wurth Elektronik; Case/Size Code: 1206; Limiting Element Voltage: 200V; Temperature Coefficient of Resistance Min: -200ppm/°C; Temperature Coefficient of Resistance Max: 200ppm/°C; Category: Thick Film Resistors; Match Code: WRIS-RSKS; ComponentLink1Description: Website Link; ComponentLink1URL: https://www.we-online.com/redexpert/article/560112132029?ad; ComponentLink2Description: Datasheet Link; ComponentLink2URL: https://www.we-online.com/redexpert/spec/560112132029?ad; Mount: Surface Mount; Min Operating Temperature: -55°C; Max Operating Temperature: 155°C; Packaging: Tape and Reel; Length: 3.1mm; Width: 1.6mm; Height: 0.6mm; Rated Power: 250mW; Resistance: 4.7MΩ; Resistance Tolerance: +/-1%
footprint WRIS-RSKS_1206_Reflow
footprint WRIS-RSKS_1206_Wave
pins: 1, 2

## 560112132030
designator R?, comment 1kΩ
WRIS-RSKS Thick Film Resistor, size 1206, 1kΩ, +/-5%, 250mW; Manufacturer Part Number: 560112132030; Manufacturer: Wurth Elektronik; Case/Size Code: 1206; Limiting Element Voltage: 200V; Temperature Coefficient of Resistance Min: -100ppm/°C; Temperature Coefficient of Resistance Max: 100ppm/°C; Category: Thick Film Resistors; Match Code: WRIS-RSKS; ComponentLink1Description: Website Link; ComponentLink1URL: https://www.we-online.com/redexpert/article/560112132030?ad; ComponentLink2Description: Datasheet Link; ComponentLink2URL: https://www.we-online.com/redexpert/spec/560112132030?ad; Mount: Surface Mount; Min Operating Temperature: -55°C; Max Operating Temperature: 155°C; Packaging: Tape and Reel; Length: 3.1mm; Width: 1.6mm; Height: 0.6mm; Rated Power: 250mW; Resistance: 1kΩ; Resistance Tolerance: +/-5%
footprint WRIS-RSKS_1206_Reflow
footprint WRIS-RSKS_1206_Wave
pins: 1, 2

## 560112132031
designator R?, comment 4.3Ω
WRIS-RSKS Thick Film Resistor, size 1206, 4.3Ω, +/-1%, 250mW; Manufacturer Part Number: 560112132031; Manufacturer: Wurth Elektronik; Case/Size Code: 1206; Limiting Element Voltage: 200V; Temperature Coefficient of Resistance Min: -200ppm/°C; Temperature Coefficient of Resistance Max: 400ppm/°C; Category: Thick Film Resistors; Match Code: WRIS-RSKS; ComponentLink1Description: Website Link; ComponentLink1URL: https://www.we-online.com/redexpert/article/560112132031?ad; ComponentLink2Description: Datasheet Link; ComponentLink2URL: https://www.we-online.com/redexpert/spec/560112132031?ad; Mount: Surface Mount; Min Operating Temperature: -55°C; Max Operating Temperature: 155°C; Packaging: Tape and Reel; Length: 3.1mm; Width: 1.6mm; Height: 0.6mm; Rated Power: 250mW; Resistance: 4.3Ω; Resistance Tolerance: +/-1%
footprint WRIS-RSKS_1206_Reflow
footprint WRIS-RSKS_1206_Wave
pins: 1, 2

## 560112132032
designator R?, comment 18Ω
WRIS-RSKS Thick Film Resistor, size 1206, 18Ω, +/-5%, 250mW; Manufacturer Part Number: 560112132032; Manufacturer: Wurth Elektronik; Case/Size Code: 1206; Limiting Element Voltage: 200V; Temperature Coefficient of Resistance Min: -100ppm/°C; Temperature Coefficient of Resistance Max: 100ppm/°C; Category: Thick Film Resistors; Match Code: WRIS-RSKS; ComponentLink1Description: Website Link; ComponentLink1URL: https://www.we-online.com/redexpert/article/560112132032?ad; ComponentLink2Description: Datasheet Link; ComponentLink2URL: https://www.we-online.com/redexpert/spec/560112132032?ad; Mount: Surface Mount; Min Operating Temperature: -55°C; Max Operating Temperature: 155°C; Packaging: Tape and Reel; Length: 3.1mm; Width: 1.6mm; Height: 0.6mm; Rated Power: 250mW; Resistance: 18Ω; Resistance Tolerance: +/-5%
footprint WRIS-RSKS_1206_Reflow
footprint WRIS-RSKS_1206_Wave
pins: 1, 2

## 560112132033
designator R?, comment 33Ω
WRIS-RSKS Thick Film Resistor, size 1206, 33Ω, +/-5%, 250mW; Manufacturer Part Number: 560112132033; Manufacturer: Wurth Elektronik; Case/Size Code: 1206; Limiting Element Voltage: 200V; Temperature Coefficient of Resistance Min: -100ppm/°C; Temperature Coefficient of Resistance Max: 100ppm/°C; Category: Thick Film Resistors; Match Code: WRIS-RSKS; ComponentLink1Description: Website Link; ComponentLink1URL: https://www.we-online.com/redexpert/article/560112132033?ad; ComponentLink2Description: Datasheet Link; ComponentLink2URL: https://www.we-online.com/redexpert/spec/560112132033?ad; Mount: Surface Mount; Min Operating Temperature: -55°C; Max Operating Temperature: 155°C; Packaging: Tape and Reel; Length: 3.1mm; Width: 1.6mm; Height: 0.6mm; Rated Power: 250mW; Resistance: 33Ω; Resistance Tolerance: +/-5%
footprint WRIS-RSKS_1206_Reflow
footprint WRIS-RSKS_1206_Wave
pins: 1, 2

## 560112132034
designator R?, comment 100kΩ
WRIS-RSKS Thick Film Resistor, size 1206, 100kΩ, +/-1%, 250mW; Manufacturer Part Number: 560112132034; Manufacturer: Wurth Elektronik; Case/Size Code: 1206; Limiting Element Voltage: 200V; Temperature Coefficient of Resistance Min: -100ppm/°C; Temperature Coefficient of Resistance Max: 100ppm/°C; Category: Thick Film Resistors; Match Code: WRIS-RSKS; ComponentLink1Description: Website Link; ComponentLink1URL: https://www.we-online.com/redexpert/article/560112132034?ad; ComponentLink2Description: Datasheet Link; ComponentLink2URL: https://www.we-online.com/redexpert/spec/560112132034?ad; Mount: Surface Mount; Min Operating Temperature: -55°C; Max Operating Temperature: 155°C; Packaging: Tape and Reel; Length: 3.1mm; Width: 1.6mm; Height: 0.6mm; Rated Power: 250mW; Resistance: 100kΩ; Resistance Tolerance: +/-1%
footprint WRIS-RSKS_1206_Reflow
footprint WRIS-RSKS_1206_Wave
pins: 1, 2